# EAGLE library part ATTINY85-20SU (library ATTINY85-20SU)
8-bit Microcontroller with In-System Programmable Flash Check prices <https://pricing.snapeda.com/parts/ATTINY85-20SU/Microchip/view-part?ref=eda>
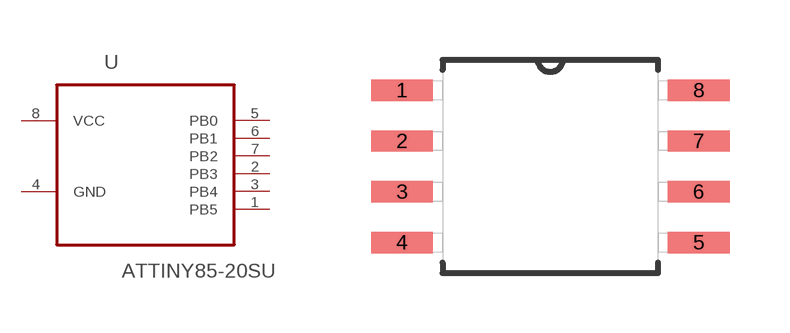
[diagram p0: symbol with the pads of SOIC127P798X216-8N; footprint SOIC127P798X216-8N]

Designator prefix U

## ATTINY85-20SU (Availability: Good; Description: AVR AVR® ATtiny Microcontroller IC 8-Bit 20MHz 8KB (4K x 16) FLASH 8-SOIC; MF: Microchip; MP: ATTINY85-20SU; Package: SOIC-8 Microchip; Price: None; Purchase-URL: https://pricing.snapeda.com/search/part/ATTINY85-20SU/?ref=eda)  [SOIC127P798X216-8N]
1  PB5
2  PB3
3  PB4
4  GND  pas
5  PB0
6  PB1
7  PB2
8  VCC  pwr

## Footprint SOIC127P798X216-8N (pad centres in mm)
smd 1.549 x 0.533: 1 -3.708,1.905; 2 -3.708,0.635; 3 -3.708,-0.635; 4 -3.708,-1.905; 5 3.708,-1.905; 6 3.708,-0.635; 7 3.708,0.635; 8 3.708,1.905